# EAGLE library part MICROBIT- (library MicroBit_Custom)
Updated for first production Micro:Bit release (with Button A on Pin 5). See https://www.microbit.co.uk/device/pins Pins 17 & 18 not connected to VCC as a protection against mis-insertion of the Micro:Bit into the edge connector.
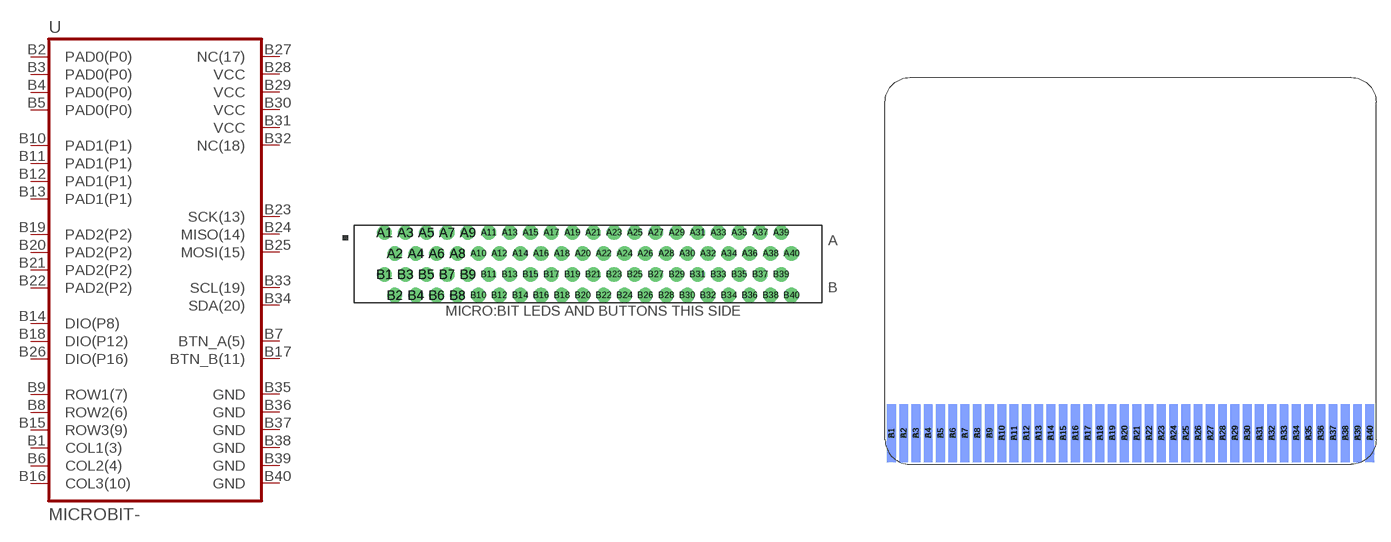
[diagram p1: symbol with the pads of RBB40DHHN_MICROBIT; footprints RBB40DHHN_MICROBIT, MICROBIT-EDGE-CONN]

Designator prefix -

## MICROBIT-CONNECTOR  [RBB40DHHN_MICROBIT]
B1  COL1(3)  out
B2  PAD0(P0)
B3  PAD0(P0)
B4  PAD0(P0)
B5  PAD0(P0)
B6  COL2(4)  out
B7  BTN_A(5)  in
B8  ROW2(6)  out
B9  ROW1(7)  out
B10  PAD1(P1)
B11  PAD1(P1)
B12  PAD1(P1)
B13  PAD1(P1)
B14  DIO(P8)
B15  ROW3(9)  out
B16  COL3(10)  out
B17  BTN_B(11)  in
B18  DIO(P12)
B19  PAD2(P2)
B20  PAD2(P2)
B21  PAD2(P2)
B22  PAD2(P2)
B23  SCK(13)
B24  MISO(14)
B25  MOSI(15)
B26  DIO(P16)
B27  NC(17)  nc
B28  VCC  pwr
B29  VCC  pwr
B30  VCC  pwr
B31  VCC  pwr
B32  NC(18)  nc
B33  SCL(19)
B34  SDA(20)
B35  GND  pwr
B36  GND  pwr
B37  GND  pwr
B38  GND  pwr
B39  GND  pwr
B40  GND  pwr

## MICROBIT-BOARD  [MICROBIT-EDGE-CONN]
Pads as for RBB40DHHN_MICROBIT

## Footprint RBB40DHHN_MICROBIT (pad centres in mm)
drill 1.1 pad 1.778: A1 -25.4,3.81; A2 -24.13,1.27; A3 -22.86,3.81; A4 -21.59,1.27; A5 -20.32,3.81; A6 -19.05,1.27; A7 -17.78,3.81; A8 -16.51,1.27; A9 -15.24,3.81; A10 -13.97,1.27; A11 -12.7,3.81; A12 -11.43,1.27; A13 -10.16,3.81; A14 -8.89,1.27; A15 -7.62,3.81; A16 -6.35,1.27; A17 -5.08,3.81; A18 -3.81,1.27; A19 -2.54,3.81; A20 -1.27,1.27; A21 0,3.81; A22 1.27,1.27; A23 2.54,3.81; A24 3.81,1.27; A25 5.08,3.81; A26 6.35,1.27; A27 7.62,3.81; A28 8.89,1.27; A29 10.16,3.81; A30 11.43,1.27; A31 12.7,3.81; A32 13.97,1.27; A33 15.24,3.81; A34 16.51,1.27; A35 17.78,3.81; A36 19.05,1.27; A37 20.32,3.81; A38 21.59,1.27; A39 22.86,3.81; A40 24.13,1.27; B1 -25.4,-1.27; B2 -24.13,-3.81; B3 -22.86,-1.27; B4 -21.59,-3.81; B5 -20.32,-1.27; B6 -19.05,-3.81; B7 -17.78,-1.27; B8 -16.51,-3.81; B9 -15.24,-1.27; B10 -13.97,-3.81; B11 -12.7,-1.27; B12 -11.43,-3.81; B13 -10.16,-1.27; B14 -8.89,-3.81; B15 -7.62,-1.27; B16 -6.35,-3.81; B17 -5.08,-1.27; B18 -3.81,-3.81; B19 -2.54,-1.27; B20 -1.27,-3.81; B21 0,-1.27; B22 1.27,-3.81; B23 2.54,-1.27; B24 3.81,-3.81; B25 5.08,-1.27; B26 6.35,-3.81; B27 7.62,-1.27; B28 8.89,-3.81; B29 10.16,-1.27; B30 11.43,-3.81; B31 12.7,-1.27; B32 13.97,-3.81; B33 15.24,-1.27; B34 16.51,-3.81; B35 17.78,-1.27; B36 19.05,-3.81; B37 20.32,-1.27; B38 21.59,-3.81; B39 22.86,-1.27; B40 24.13,-3.81

## Footprint MICROBIT-EDGE-CONN (pad centres in mm)
BBC Micro:Bit Edge Connector 40 Dual Position 0.05 Series Standard Edge Use the B (top) side pads to have components on the same side as the LEDs & Buttons on a real Micro:Bit.
smd 0.91 x 6 bottom: A1 0,3.22; A2 1.27,3.22; A3 2.54,3.22; A4 3.81,3.22; A5 5.08,3.22; A6 6.35,3.22; A7 7.62,3.22; A8 8.89,3.22; A9 10.16,3.22; A10 11.43,3.22; A11 12.7,3.22; A12 13.97,3.22; A13 15.24,3.22; A14 16.51,3.22; A15 17.78,3.22; A16 19.05,3.22; A17 20.32,3.22; A18 21.59,3.22; A19 22.86,3.22; A20 24.13,3.22; A21 25.4,3.22; A22 26.67,3.22; A23 27.94,3.22; A24 29.21,3.22; A25 30.48,3.22; A26 31.75,3.22; A27 33.02,3.22; A28 34.29,3.22; A29 35.56,3.22; A30 36.83,3.22; A31 38.1,3.22; A32 39.37,3.22; A33 40.64,3.22; A34 41.91,3.22; A35 43.18,3.22; A36 44.45,3.22; A37 45.72,3.22; A38 46.99,3.22; A39 48.26,3.22; A40 49.53,3.22
smd 0.91 x 6: B1 0,3.22; B2 1.27,3.22; B3 2.54,3.22; B4 3.81,3.22; B5 5.08,3.22; B6 6.35,3.22; B7 7.62,3.22; B8 8.89,3.22; B9 10.16,3.22; B10 11.43,3.22; B11 12.7,3.22; B12 13.97,3.22; B13 15.24,3.22; B14 16.51,3.22; B15 17.78,3.22; B16 19.05,3.22; B17 20.32,3.22; B18 21.59,3.22; B19 22.86,3.22; B20 24.13,3.22; B21 25.4,3.22; B22 26.67,3.22; B23 27.94,3.22; B24 29.21,3.22; B25 30.48,3.22; B26 31.75,3.22; B27 33.02,3.22; B28 34.29,3.22; B29 35.56,3.22; B30 36.83,3.22; B31 38.1,3.22; B32 39.37,3.22; B33 40.64,3.22; B34 41.91,3.22; B35 43.18,3.22; B36 44.45,3.22; B37 45.72,3.22; B38 46.99,3.22; B39 48.26,3.22; B40 49.53,3.22